# EAGLE library part НР1-4Р (library others)
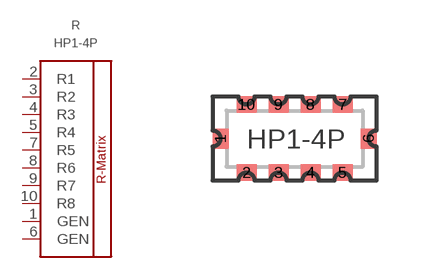
[diagram p2: symbol with the pads of НР1-4Р; footprint НР1-4Р]

Designator prefix R

## НР1-4Р  [НР1-4Р]
1  GEN  pas
2  R1  pas
3  R2  pas
4  R3  pas
5  R4  pas
6  GEN  pas
7  R5  pas
8  R6  pas
9  R7  pas
10  R8  pas

## Footprint НР1-4Р (pad centres in mm)
smd 0.4 x 0.5: 1 -1.85,0; 6 1.85,0
smd 0.5 x 0.4: 2 -1.2,-0.85; 3 -0.4,-0.85; 4 0.4,-0.85; 5 1.2,-0.85; 7 1.2,0.85; 8 0.4,0.85; 9 -0.4,0.85; 10 -1.2,0.85